# Altium footprint library 10SVP4R7M.PcbLib: 3 footprints
Each footprint in its own frame and in the unit in brackets; x right, y up, seen from the top. Pads: shape width x height; smd on the part's side, far side on the other; paste and mask are expansions set on the pad; w line width, h text height; cw(c..) or ccw(c..) is an arc to the next point about the centre after c.
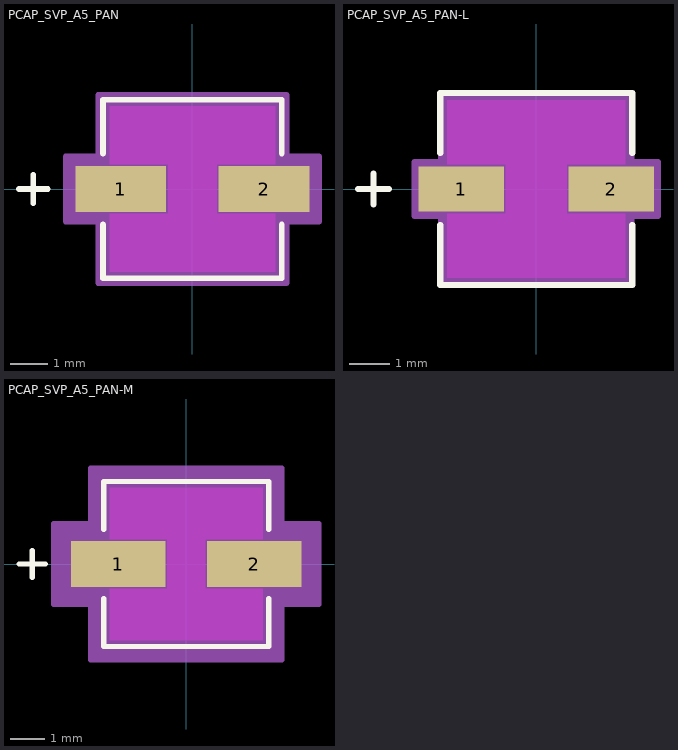
[diagram p0: the footprints below, top view; thin cyan lines are the x and y axes]

## PCAP_SVP_A5_PAN [mil]
pads (2):
  rect 95x48 smd paste+0 mask+0: 1(-75,0) 2(75,0)
Top Layer keep-out:
  region: -25.5,-26 -25.5,26 25.5,26 25.5,-26
  region: -86.5,26 -86.5,86.5 86.5,86.5 86.5,26
  region: -86.5,-86.5 -86.5,-26 86.5,-26 86.5,-86.5
Top Overlay:
  lines w6: -181.5,0 -151.5,0 ; -166.5,-15 -166.5,15 ; -93.5,-37.1 -93.5,-93.5 93.5,-93.5 93.5,-37.1 ; -93.5,37.1 -93.5,93.5 93.5,93.5 93.5,37.1
Keep-Out Layer:
  region: -25.5,-26 -25.5,26 25.5,26 25.5,-26
Mechanical 13:
  lines w1: -181.5,0 -151.5,0 ; -166.5,-15 -166.5,15 ; -88.5,-44.25 -44.25,-88.5 ; -88.5,44.25 -44.25,88.5 ; -88.5,-88.5 88.5,-88.5 88.5,88.5 -88.5,88.5 -88.5,-88.5
Mechanical 15:
  region: -98.5,-34 -132.5,-34 -132.5,34 -98.5,34 -98.5,98.5 98.5,98.5 98.5,34 132.5,34 132.5,-34 98.5,-34 98.5,-98.5 -98.5,-98.5
  lines w6: -132.5,-34 -132.5,34 -98.5,34 -98.5,98.5 98.5,98.5 98.5,34 132.5,34 132.5,-34 98.5,-34 98.5,-98.5 -98.5,-98.5 -98.5,-34 -132.5,-34
3D body "PCAP_SVP_A5_PAN.step": height 219.09, standoff 0, extent -102.52,-88.5 102.52,88.5

## PCAP_SVP_A5_PAN-L [mil]
pads (2):
  rect 83x44 smd paste+0 mask+0: 1(-73,0) 2(73,0)
Top Layer keep-out:
  region: -29.5,-24 -29.5,24 29.5,24 29.5,-24
  region: -86.5,24 -86.5,86.5 86.5,86.5 86.5,24
  region: -86.5,-86.5 -86.5,-24 86.5,-24 86.5,-86.5
Top Overlay:
  lines w6: -173.5,0 -143.5,0 ; -158.5,-15 -158.5,15 ; -93.5,-35.1 -93.5,-93.5 93.5,-93.5 93.5,-35.1 ; -93.5,35.1 -93.5,93.5 93.5,93.5 93.5,35.1
Keep-Out Layer:
  region: -29.5,-24 -29.5,24 29.5,24 29.5,-24
Mechanical 13:
  lines w1: -173.5,0 -143.5,0 ; -158.5,-15 -158.5,15 ; -88.5,-44.25 -44.25,-88.5 ; -88.5,44.25 -44.25,88.5 ; -88.5,-88.5 88.5,-88.5 88.5,88.5 -88.5,88.5 -88.5,-88.5
Mechanical 15:
  region: -92.5,-26 -118.5,-26 -118.5,26 -92.5,26 -92.5,92.5 92.5,92.5 92.5,26 118.5,26 118.5,-26 92.5,-26 92.5,-92.5 -92.5,-92.5
  lines w6: -118.5,-26 -118.5,26 -92.5,26 -92.5,92.5 92.5,92.5 92.5,26 118.5,26 118.5,-26 92.5,-26 92.5,-92.5 -92.5,-92.5 -92.5,-26 -118.5,-26
3D body "PCAP_SVP_A5_PAN.step": height 219.09, standoff 0, extent -102.52,-88.5 102.52,88.5

## PCAP_SVP_A5_PAN-M [mil]
pads (2):
  rect 107x52 smd paste+0 mask+0: 1(-77,0) 2(77,0)
Top Layer keep-out:
  region: -21.5,-28 -21.5,28 21.5,28 21.5,-28
  region: -86.5,28 -86.5,86.5 86.5,86.5 86.5,28
  region: -86.5,-86.5 -86.5,-28 86.5,-28 86.5,-86.5
Top Overlay:
  lines w6: -189.5,0 -159.5,0 ; -174.5,-15 -174.5,15 ; -93.5,-39.1 -93.5,-93.5 93.5,-93.5 93.5,-39.1 ; -93.5,39.1 -93.5,93.5 93.5,93.5 93.5,39.1
Keep-Out Layer:
  region: -21.5,-28 -21.5,28 21.5,28 21.5,-28
Mechanical 13:
  lines w1: -189.5,0 -159.5,0 ; -174.5,-15 -174.5,15 ; -88.5,-44.25 -44.25,-88.5 ; -88.5,44.25 -44.25,88.5 ; -88.5,-88.5 88.5,-88.5 88.5,88.5 -88.5,88.5 -88.5,-88.5
Mechanical 15:
  region: -108.5,-46 -150.5,-46 -150.5,46 -108.5,46 -108.5,108.5 108.5,108.5 108.5,46 150.5,46 150.5,-46 108.5,-46 108.5,-108.5 -108.5,-108.5
  lines w6: -150.5,-46 -150.5,46 -108.5,46 -108.5,108.5 108.5,108.5 108.5,46 150.5,46 150.5,-46 108.5,-46 108.5,-108.5 -108.5,-108.5 -108.5,-46 -150.5,-46
3D body "PCAP_SVP_A5_PAN.step": height 219.09, standoff 0, extent -102.52,-88.5 102.52,88.5